# Altium schematic symbol library DRIVER-PCA9685PW_TSSOP28_.SchLib: 1 symbol
Pins are listed as number, name and electrical type; pins without a type are passive.

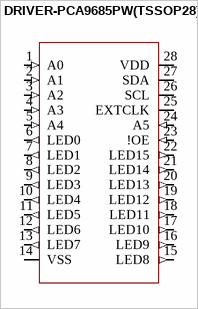
[diagram p0: symbol DRIVER-PCA9685PW(TSSOP28)]

## DRIVER-PCA9685PW(TSSOP28)
designator U?  (value not drawn)
SMD IC LED DRVR, LIN DIM 25MA, 16 channels, 12bit; MF: NXP Semiconductors; Price: 1.95 USD; MP: PCA9685PW; Availability: Good; Package: TSSOP-28 NXP Semiconductors; Value: *
footprint TSSOP28-0.65-9.7X4.4MM
pins: 1 A0 (in), 2 A1 (in), 3 A2 (in), 4 A3 (in), 5 A4 (in), 6 LED0 (out), 7 LED1 (out), 8 LED2 (out), 9 LED3 (out), 10 LED4 (out), 11 LED5 (out), 12 LED6 (out), 13 LED7 (out), 14 VSS (power), 15 LED8 (out), 16 LED9 (out), 17 LED10 (out), 18 LED11 (out), 19 LED12 (out), 20 LED13 (out), 21 LED14 (out), 22 LED15 (out), 23 !OE (in), 24 A5 (in), 25 EXTCLK (io), 26 SCL (io), 27 SDA (io), 28 VDD (power)